# Altium integrated library TI Power Management Supervisor and Reset IC.IntLib: 819 symbols (part 17 of 30)
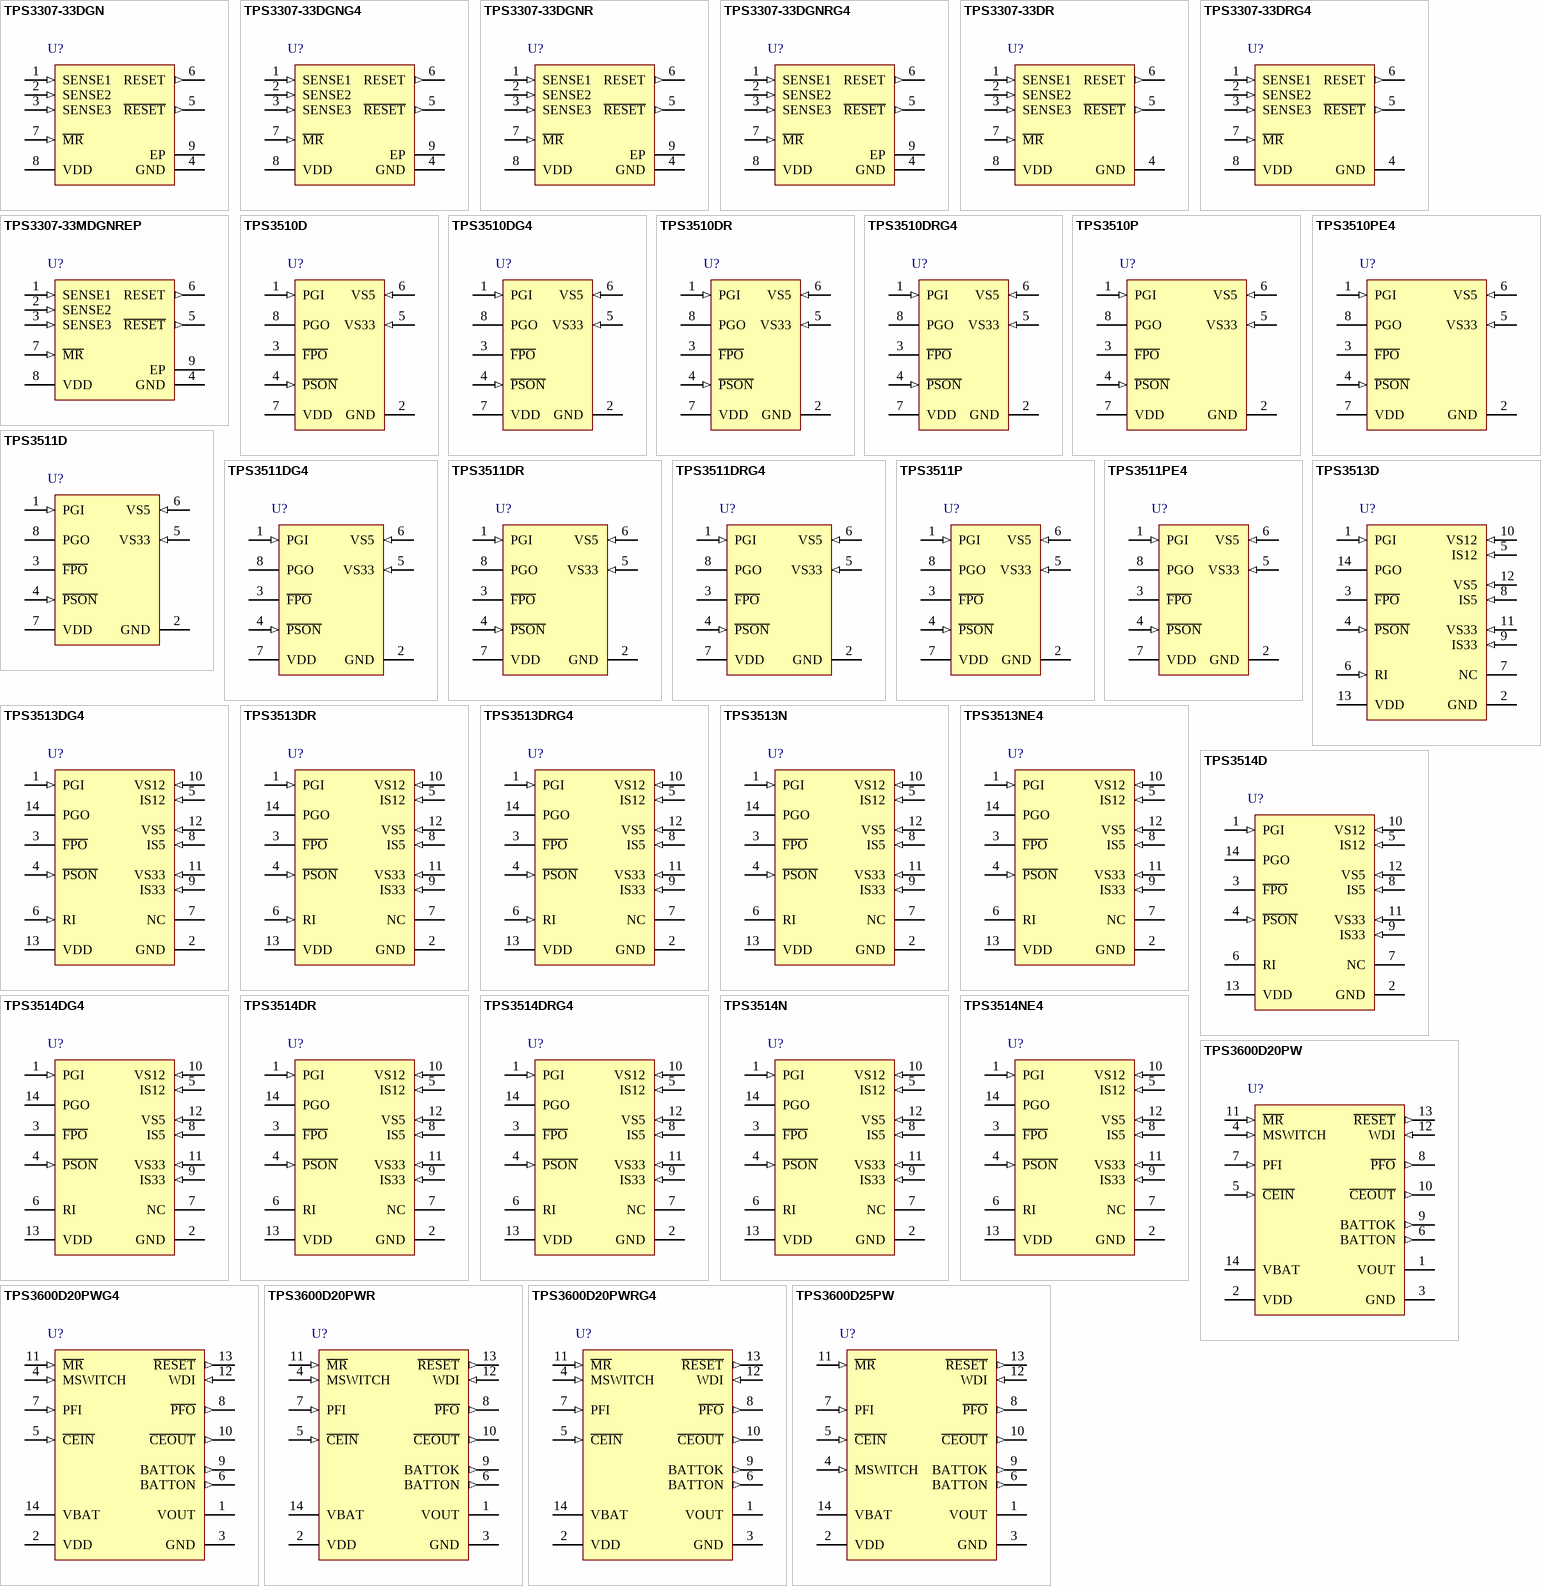
[diagram p37: symbols TPS3307-33DGN to TPS3600D25PW]

## TPS3513NE4
designator U?
3-Channel Supervisor With Over-Current Detect for Switch-Mode Power Supply, 3 Supply Monitored, -40 to 85 degC, 14-pin PDIP (N), Green (RoHS & no Sb/Br); Manufacturer: Texas Instruments; PartNumber: TPS3513NE4; # of supplies monitored: 3; Iq(Typ)(uA): 1000; Output Driver Type / Reset Output: Active-low, Open-drain; Rating: Catalog; Reset Threshold Accuracy(%): 2.3; SubFamily: Supervisor and Reset IC; Threshold Voltage 1 (typ)(Typ)(V): 2.2; Threshold Voltage 2 (typ)(Typ)(V): 3.5; Threshold Voltage 3 (typ)(Typ)(V): 9; Time Delay(ms): 300; VCC(Max)(V): 15; VCC(Min)(V): 4.5; DatasheetVersion: SLVS313B; PackageVersion: revE, Dec-2002; PackageReference: N14; PackageDescription: 14-Pin Plastic Dual-In-Line Package, Row Spacing 7.62 mm, Pitch 2.54 mm; Supplier 1: Digi-Key; Supplier Part Number 1: TPS3513NE4-ND; Supplier 2: Newark; Supplier Part Number 2: 24K5920; Supplier 3: Mouser; Supplier Part Number 3: 595-TPS3513NE4; Mounting Technology: Through Hole; Code_JEDEC: MS-001; ComponentLink1Description: Datasheet; ComponentLink1URL: http://www.ti.com/general/docs/lit/getliterature.tsp?genericPartNumber=TPS3513&fileType=pdf
footprint N14 (DIP, 14-Leads, Row Spacing 7.62mm, Pitch 2.54mm, Body 19.3x6.4mm)
pins: 1 PGI (in) "Power-good input. A low level indicates that power is not good, while a high (>1.2V) indicates that power is good.", 2 GND (power) "Ground", 3 ~{FPO} (oc) "Inverted fault protection output, open-drain, output stage. A low level indicates that the fault is not latched, while floating indicates that the fault is latched.", 4 ~{PSON} (in) "On/off control. Pull low to enable the PC Power Supply; float to disable it.", 5 IS12 (in) "12-V overcurrent protection", 6 RI "Current sense setting", 7 NC "No internal connection", 8 IS5 (in) "5-V overcurrent protection", 9 IS33 (in) "3.3-V overcurrent protection", 10 VS12 (in) "12-V overvoltage/undervoltage protection", 11 VS33 (in) "3.3-V overvoltage protect/undervoltage detect", 12 VS5 (in) "5-V overvoltage protect/undervoltage detect", 13 VDD (power) "Supply voltage", 14 PGO (oc) "Power-good output, open drain output stage. A low level indicates that power is not good, while floating indicates that power is good."

## TPS3514D
designator U?
3 Ch Supervisor with Over Current Detect for Switchmode Power Supply, 3 Supplies Monitored, -40 to 85 degC, 14-pin SOIC (D), Green (RoHS & no Sb/Br); Manufacturer: Texas Instruments; PartNumber: TPS3514D; # of supplies monitored: 3; Iq(Typ)(uA): 1000; Output Driver Type / Reset Output: Active-low, Open-drain; Rating: Catalog; Reset Threshold Accuracy(%): 2.3; SubFamily: Supervisor and Reset IC; Threshold Voltage 1 (typ)(Typ)(V): 2.2; Threshold Voltage 2 (typ)(Typ)(V): 3.5; Threshold Voltage 3 (typ)(Typ)(V): 9; Time Delay(ms): 300; VCC(Max)(V): 15; VCC(Min)(V): 4.5; DatasheetVersion: SLVS422C; PackageVersion: revM, Jun-2011; PackageReference: D14; PackageDescription: 14-Pin Plastic Small Outline Integrated Circuit, 8.7 x 3.9 mm, Pitch 1.27 mm Pitch; Supplier 1: Digi-Key; Supplier Part Number 1: 296-13513-5-ND; Supplier 2: Newark; Supplier Part Number 2: 77C0340; Supplier 3: Mouser; Supplier Part Number 3: 595-TPS3514D; Mounting Technology: Surface Mount; Code_JEDEC: MS-012AB; ComponentLink1Description: Datasheet; ComponentLink1URL: http://www.ti.com/general/docs/lit/getliterature.tsp?genericPartNumber=TPS3514&fileType=pdf
footprint D14_N (SOIC, 14-Leads, Body 8.7x3.9mm, Pitch 1.27mm, IPC Medium Density)
footprint D14_L (SOIC, 14-Leads, Body 8.7x3.9mm, Pitch 1.27mm, IPC High Density)
footprint D14_M (SOIC, 14-Leads, Body 8.7x3.9mm, Pitch 1.27mm, IPC Low Density)
pins: 1 PGI (in) "Power-Good Input", 2 GND (power) "Ground", 3 ~{FPO} (oc) "Inverted Fault Ptotection output. Open-drain output stage.", 4 ~{PSON} (in) "On/Off Control Input", 5 IS12 (in) "12V Over-Current Protection Input", 6 RI "OCP Reference Source", 7 NC "No Internal Connection", 8 IS5 (in) "5V Over-Current Protection Input", 9 IS33 (in) "3.3V Over-Current Protection Input", 10 VS12 (in) "12V Over-Voltage/Under-Voltage Protection Input", 11 VS33 (in) "3.3V Over-Voltage/Under-Voltage Protection Input", 12 VS5 (in) "5V Over-Voltage/Under-Voltage Protection Input", 13 VDD (power) "Supply Voltage", 14 PGO (oc) "Power-Good Output. Open-drain output stage."

## TPS3514DG4
designator U?
3 Ch Supervisor with Over Current Detect for Switchmode Power Supply, 3 Supply Monitored, -40 to 85 degC, 14-pin SOIC (D), Green (RoHS & no Sb/Br); Manufacturer: Texas Instruments; PartNumber: TPS3514DG4; # of supplies monitored: 3; Iq(Typ)(uA): 1000; Output Driver Type / Reset Output: Active-low, Open-drain; Rating: Catalog; Reset Threshold Accuracy(%): 2.3; SubFamily: Supervisor and Reset IC; Threshold Voltage 1 (typ)(Typ)(V): 2.2; Threshold Voltage 2 (typ)(Typ)(V): 3.5; Threshold Voltage 3 (typ)(Typ)(V): 9; Time Delay(ms): 300; VCC(Max)(V): 15; VCC(Min)(V): 4.5; DatasheetVersion: SLVS422C; PackageVersion: revM, Jun-2011; PackageReference: D14; PackageDescription: 14-Pin Plastic Small Outline Integrated Circuit, 8.7 x 3.9 mm, Pitch 1.27 mm Pitch; Supplier 1: Digi-Key; Supplier Part Number 1: TPS3514DG4-ND; Supplier 2: Newark; Supplier Part Number 2: 18M3217; Supplier 3: Mouser; Supplier Part Number 3: 595-TPS3514DG4; Mounting Technology: Surface Mount; Code_JEDEC: MS-012AB; ComponentLink1Description: Datasheet; ComponentLink1URL: http://www.ti.com/general/docs/lit/getliterature.tsp?genericPartNumber=TPS3514&fileType=pdf
footprint D14_N (SOIC, 14-Leads, Body 8.7x3.9mm, Pitch 1.27mm, IPC Medium Density)
footprint D14_L (SOIC, 14-Leads, Body 8.7x3.9mm, Pitch 1.27mm, IPC High Density)
footprint D14_M (SOIC, 14-Leads, Body 8.7x3.9mm, Pitch 1.27mm, IPC Low Density)
pins: 1 PGI (in) "Power-Good Input", 2 GND (power) "Ground", 3 ~{FPO} (oc) "Inverted Fault Ptotection output. Open-drain output stage.", 4 ~{PSON} (in) "On/Off Control Input", 5 IS12 (in) "12V Over-Current Protection Input", 6 RI "OCP Reference Source", 7 NC "No Internal Connection", 8 IS5 (in) "5V Over-Current Protection Input", 9 IS33 (in) "3.3V Over-Current Protection Input", 10 VS12 (in) "12V Over-Voltage/Under-Voltage Protection Input", 11 VS33 (in) "3.3V Over-Voltage/Under-Voltage Protection Input", 12 VS5 (in) "5V Over-Voltage/Under-Voltage Protection Input", 13 VDD (power) "Supply Voltage", 14 PGO (oc) "Power-Good Output. Open-drain output stage."

## TPS3514DR
designator U?
3 Ch Supervisor with Over Current Detect for Switchmode Power Supply, 3 Supply Monitored, -40 to 85 degC, 14-pin SOIC (D), Green (RoHS & no Sb/Br); Manufacturer: Texas Instruments; PartNumber: TPS3514DR; # of supplies monitored: 3; Iq(Typ)(uA): 1000; Output Driver Type / Reset Output: Active-low, Open-drain; Rating: Catalog; Reset Threshold Accuracy(%): 2.3; SubFamily: Supervisor and Reset IC; Threshold Voltage 1 (typ)(Typ)(V): 2.2; Threshold Voltage 2 (typ)(Typ)(V): 3.5; Threshold Voltage 3 (typ)(Typ)(V): 9; Time Delay(ms): 300; VCC(Max)(V): 15; VCC(Min)(V): 4.5; DatasheetVersion: SLVS422C; PackageVersion: revM, Jun-2011; PackageReference: D14; PackageDescription: 14-Pin Plastic Small Outline Integrated Circuit, 8.7 x 3.9 mm, Pitch 1.27 mm Pitch; Supplier 1: Digi-Key; Supplier Part Number 1: TPS3514DR-ND; Supplier 2: Newark; Supplier Part Number 2: 77C0341; Supplier 3: Mouser; Supplier Part Number 3: 595-TPS3514DR; Mounting Technology: Surface Mount; Code_JEDEC: MS-012AB; ComponentLink1Description: Datasheet; ComponentLink1URL: http://www.ti.com/general/docs/lit/getliterature.tsp?genericPartNumber=TPS3514&fileType=pdf
footprint D14_N (SOIC, 14-Leads, Body 8.7x3.9mm, Pitch 1.27mm, IPC Medium Density)
footprint D14_L (SOIC, 14-Leads, Body 8.7x3.9mm, Pitch 1.27mm, IPC High Density)
footprint D14_M (SOIC, 14-Leads, Body 8.7x3.9mm, Pitch 1.27mm, IPC Low Density)
pins: 1 PGI (in) "Power-Good Input", 2 GND (power) "Ground", 3 ~{FPO} (oc) "Inverted Fault Ptotection output. Open-drain output stage.", 4 ~{PSON} (in) "On/Off Control Input", 5 IS12 (in) "12V Over-Current Protection Input", 6 RI "OCP Reference Source", 7 NC "No Internal Connection", 8 IS5 (in) "5V Over-Current Protection Input", 9 IS33 (in) "3.3V Over-Current Protection Input", 10 VS12 (in) "12V Over-Voltage/Under-Voltage Protection Input", 11 VS33 (in) "3.3V Over-Voltage/Under-Voltage Protection Input", 12 VS5 (in) "5V Over-Voltage/Under-Voltage Protection Input", 13 VDD (power) "Supply Voltage", 14 PGO (oc) "Power-Good Output. Open-drain output stage."

## TPS3514DRG4
designator U?
3 Ch Supervisor with Over Current Detect for Switchmode Power Supply, 3 Supply Monitored, -40 to 85 degC, 14-pin SOIC (D), Green (RoHS & no Sb/Br); Manufacturer: Texas Instruments; PartNumber: TPS3514DRG4; # of supplies monitored: 3; Iq(Typ)(uA): 1000; Output Driver Type / Reset Output: Active-low, Open-drain; Rating: Catalog; Reset Threshold Accuracy(%): 2.3; SubFamily: Supervisor and Reset IC; Threshold Voltage 1 (typ)(Typ)(V): 2.2; Threshold Voltage 2 (typ)(Typ)(V): 3.5; Threshold Voltage 3 (typ)(Typ)(V): 9; Time Delay(ms): 300; VCC(Max)(V): 15; VCC(Min)(V): 4.5; DatasheetVersion: SLVS422C; PackageVersion: revM, Jun-2011; PackageReference: D14; PackageDescription: 14-Pin Plastic Small Outline Integrated Circuit, 8.7 x 3.9 mm, Pitch 1.27 mm Pitch; Supplier 1: Digi-Key; Supplier Part Number 1: TPS3514DRG4-ND; Supplier 2: Newark; Supplier Part Number 2: 81K4141; Supplier 3: Mouser; Supplier Part Number 3: 595-TPS3514DRG4; Mounting Technology: Surface Mount; Code_JEDEC: MS-012AB; ComponentLink1Description: Datasheet; ComponentLink1URL: http://www.ti.com/general/docs/lit/getliterature.tsp?genericPartNumber=TPS3514&fileType=pdf
footprint D14_N (SOIC, 14-Leads, Body 8.7x3.9mm, Pitch 1.27mm, IPC Medium Density)
footprint D14_L (SOIC, 14-Leads, Body 8.7x3.9mm, Pitch 1.27mm, IPC High Density)
footprint D14_M (SOIC, 14-Leads, Body 8.7x3.9mm, Pitch 1.27mm, IPC Low Density)
pins: 1 PGI (in) "Power-Good Input", 2 GND (power) "Ground", 3 ~{FPO} (oc) "Inverted Fault Ptotection output. Open-drain output stage.", 4 ~{PSON} (in) "On/Off Control Input", 5 IS12 (in) "12V Over-Current Protection Input", 6 RI "OCP Reference Source", 7 NC "No Internal Connection", 8 IS5 (in) "5V Over-Current Protection Input", 9 IS33 (in) "3.3V Over-Current Protection Input", 10 VS12 (in) "12V Over-Voltage/Under-Voltage Protection Input", 11 VS33 (in) "3.3V Over-Voltage/Under-Voltage Protection Input", 12 VS5 (in) "5V Over-Voltage/Under-Voltage Protection Input", 13 VDD (power) "Supply Voltage", 14 PGO (oc) "Power-Good Output. Open-drain output stage."

## TPS3514N
designator U?
3 Ch Supervisor with Over Current Detect for Switchmode Power Supply, 3 Supply Monitored, -40 to 85 degC, 14-pin PDIP (N), Pb-Free (RoHS); Manufacturer: Texas Instruments; PartNumber: TPS3514N; # of supplies monitored: 3; Iq(Typ)(uA): 1000; Output Driver Type / Reset Output: Active-low, Open-drain; Rating: Catalog; Reset Threshold Accuracy(%): 2.3; SubFamily: Supervisor and Reset IC; Threshold Voltage 1 (typ)(Typ)(V): 2.2; Threshold Voltage 2 (typ)(Typ)(V): 3.5; Threshold Voltage 3 (typ)(Typ)(V): 9; Time Delay(ms): 300; VCC(Max)(V): 15; VCC(Min)(V): 4.5; DatasheetVersion: SLVS422C; PackageVersion: revE, Dec-2002; PackageReference: N14; PackageDescription: 14-Pin Plastic Dual-In-Line Package, Row Spacing 7.62 mm, Pitch 2.54 mm; Supplier 1: Digi-Key; Supplier Part Number 1: 296-34603-5-ND; Supplier 2: Farnell; Supplier Part Number 2: 1755526; Supplier 3: Newark; Supplier Part Number 3: 77C0342; Supplier 4: Mouser; Supplier Part Number 4: 595-TPS3514N; Mounting Technology: Through Hole; Code_JEDEC: MS-001; ComponentLink1Description: Datasheet; ComponentLink1URL: http://www.ti.com/general/docs/lit/getliterature.tsp?genericPartNumber=TPS3514&fileType=pdf
footprint N14 (DIP, 14-Leads, Row Spacing 7.62mm, Pitch 2.54mm, Body 19.3x6.4mm)
pins: 1 PGI (in) "Power-Good Input", 2 GND (power) "Ground", 3 ~{FPO} (oc) "Inverted Fault Ptotection output. Open-drain output stage.", 4 ~{PSON} (in) "On/Off Control Input", 5 IS12 (in) "12V Over-Current Protection Input", 6 RI "OCP Reference Source", 7 NC "No Internal Connection", 8 IS5 (in) "5V Over-Current Protection Input", 9 IS33 (in) "3.3V Over-Current Protection Input", 10 VS12 (in) "12V Over-Voltage/Under-Voltage Protection Input", 11 VS33 (in) "3.3V Over-Voltage/Under-Voltage Protection Input", 12 VS5 (in) "5V Over-Voltage/Under-Voltage Protection Input", 13 VDD (power) "Supply Voltage", 14 PGO (oc) "Power-Good Output. Open-drain output stage."

## TPS3514NE4
designator U?
3 Ch Supervisor with Over Current Detect for Switchmode Power Supply, 3 Supply Monitored, -40 to 85 degC, 14-pin PDIP (N), Pb-Free (RoHS); Manufacturer: Texas Instruments; PartNumber: TPS3514NE4; # of supplies monitored: 3; Iq(Typ)(uA): 1000; Output Driver Type / Reset Output: Active-low, Open-drain; Rating: Catalog; Reset Threshold Accuracy(%): 2.3; SubFamily: Supervisor and Reset IC; Threshold Voltage 1 (typ)(Typ)(V): 2.2; Threshold Voltage 2 (typ)(Typ)(V): 3.5; Threshold Voltage 3 (typ)(Typ)(V): 9; Time Delay(ms): 300; VCC(Max)(V): 15; VCC(Min)(V): 4.5; DatasheetVersion: SLVS422C; PackageVersion: revE, Dec-2002; PackageReference: N14; PackageDescription: 14-Pin Plastic Dual-In-Line Package, Row Spacing 7.62 mm, Pitch 2.54 mm; Supplier 1: Digi-Key; Supplier Part Number 1: TPS3514NE4-ND; Supplier 2: Newark; Supplier Part Number 2: 24K5921; Supplier 3: Mouser; Supplier Part Number 3: 595-TPS3514NE4; Mounting Technology: Through Hole; Code_JEDEC: MS-001; ComponentLink1Description: Datasheet; ComponentLink1URL: http://www.ti.com/general/docs/lit/getliterature.tsp?genericPartNumber=TPS3514&fileType=pdf
footprint N14 (DIP, 14-Leads, Row Spacing 7.62mm, Pitch 2.54mm, Body 19.3x6.4mm)
pins: 1 PGI (in) "Power-Good Input", 2 GND (power) "Ground", 3 ~{FPO} (oc) "Inverted Fault Ptotection output. Open-drain output stage.", 4 ~{PSON} (in) "On/Off Control Input", 5 IS12 (in) "12V Over-Current Protection Input", 6 RI "OCP Reference Source", 7 NC "No Internal Connection", 8 IS5 (in) "5V Over-Current Protection Input", 9 IS33 (in) "3.3V Over-Current Protection Input", 10 VS12 (in) "12V Over-Voltage/Under-Voltage Protection Input", 11 VS33 (in) "3.3V Over-Voltage/Under-Voltage Protection Input", 12 VS5 (in) "5V Over-Voltage/Under-Voltage Protection Input", 13 VDD (power) "Supply Voltage", 14 PGO (oc) "Power-Good Output. Open-drain output stage."

## TPS3600D20PW
designator U?
Battery-Backup Supervisor for Low Power Processor, 1 Supply Monitored, -40 to 85 degC, 14-pin TSSOP (PW), Green (RoHS & no Sb/Br); Manufacturer: Texas Instruments; PartNumber: TPS3600D20PW; # of supplies monitored: 1; Iq(Typ)(uA): 20; Output Driver Type / Reset Output: Active-low, Push-pull; Rating: Catalog; Reset Threshold Accuracy(%): 2.3; SubFamily: Supervisor and Reset IC; Threshold Voltage 1 (typ)(Typ)(V): 1.78; Threshold Voltage 2 (typ)(Typ)(V): Adjustable; Time Delay(ms): 100; VCC(Max)(V): 5.5; VCC(Min)(V): 1.65; Watchdog Timer WDI(sec): 0.8; DatasheetVersion: SLVS336B; PackageVersion: revG, Feb-2011; PackageReference: PW14; PackageDescription: 14-Pin Thin Small Outline Package 0.65 mm Pitch; Supplier 1: Digi-Key; Supplier Part Number 1: 296-10906-5-ND; Supplier 2: Newark; Supplier Part Number 2: 25C5033; Supplier 3: Mouser; Supplier Part Number 3: 595-TPS3600D20PW; Mounting Technology: Surface Mount; Code_JEDEC: MO-153; ComponentLink1Description: Datasheet; ComponentLink1URL: http://www.ti.com/general/docs/lit/getliterature.tsp?genericPartNumber=TPS3600D20&fileType=pdf
footprint PW14_N (TSOP, 14-Leads, Body 5x4.4mm, Pitch 0.65mm, IPC Medium Density)
footprint PW14_L (TSOP, 14-Leads, Body 5x4.4mm, Pitch 0.65mm, IPC High Density)
footprint PW14_M (TSOP, 14-Leads, Body 5x4.4mm, Pitch 0.65mm, IPC Low Density)
pins: 1 VOUT (power) "Supply output.", 2 VDD (power) "Input supply voltage.", 3 GND (power) "Ground.", 4 MSWITCH (in) "Manual switch to force device into battery-backup mode (connect to GND if not used).", 5 ~{CEIN} (in) "Chip-enable input.", 6 BATTON (out) "Logic output/external bypass switch driver output.", 7 PFI (in) "Power-fail comparator input (connect to GND if not used).", 8 ~{PFO} (out) "Power-fail comparator output.", 9 BATTOK (out) "Battery status output.", 10 ~{CEOUT} (out) "Chip-enable output.", 11 ~{MR} (in) "Manual reset input.", 12 WDI (in) "Watchdog timer input.", 13 ~{RESET} (out) "Active-low reset output.", 14 VBAT (power) "Backup-battery input."

## TPS3600D20PWG4
designator U?
Battery-Backup Supervisor for Low Power Processor, 1 Supply Monitored, -40 to 85 degC, 14-pin TSSOP (PW), Green (RoHS & no Sb/Br); Manufacturer: Texas Instruments; PartNumber: TPS3600D20PWG4; # of supplies monitored: 1; Iq(Typ)(uA): 20; Output Driver Type / Reset Output: Active-low, Push-pull; Rating: Catalog; Reset Threshold Accuracy(%): 2.3; SubFamily: Supervisor and Reset IC; Threshold Voltage 1 (typ)(Typ)(V): 1.78; Threshold Voltage 2 (typ)(Typ)(V): Adjustable; Time Delay(ms): 100; VCC(Max)(V): 5.5; VCC(Min)(V): 1.65; Watchdog Timer WDI(sec): 0.8; DatasheetVersion: SLVS336B; PackageVersion: revG, Feb-2011; PackageReference: PW14; PackageDescription: 14-Pin Thin Small Outline Package 0.65 mm Pitch; Supplier 1: Digi-Key; Supplier Part Number 1: TPS3600D20PWG4-ND; Supplier 2: Newark; Supplier Part Number 2: 02M4308; Supplier 3: Mouser; Supplier Part Number 3: 595-TPS3600D20PWG4; Mounting Technology: Surface Mount; Code_JEDEC: MO-153; ComponentLink1Description: Datasheet; ComponentLink1URL: http://www.ti.com/general/docs/lit/getliterature.tsp?genericPartNumber=TPS3600D20&fileType=pdf
footprint PW14_N (TSOP, 14-Leads, Body 5x4.4mm, Pitch 0.65mm, IPC Medium Density)
footprint PW14_L (TSOP, 14-Leads, Body 5x4.4mm, Pitch 0.65mm, IPC High Density)
footprint PW14_M (TSOP, 14-Leads, Body 5x4.4mm, Pitch 0.65mm, IPC Low Density)
pins: 1 VOUT (power) "Supply output.", 2 VDD (power) "Input supply voltage.", 3 GND (power) "Ground.", 4 MSWITCH (in) "Manual switch to force device into battery-backup mode (connect to GND if not used).", 5 ~{CEIN} (in) "Chip-enable input.", 6 BATTON (out) "Logic output/external bypass switch driver output.", 7 PFI (in) "Power-fail comparator input (connect to GND if not used).", 8 ~{PFO} (out) "Power-fail comparator output.", 9 BATTOK (out) "Battery status output.", 10 ~{CEOUT} (out) "Chip-enable output.", 11 ~{MR} (in) "Manual reset input.", 12 WDI (in) "Watchdog timer input.", 13 ~{RESET} (out) "Active-low reset output.", 14 VBAT (power) "Backup-battery input."

## TPS3600D20PWR
designator U?
Battery-Backup Supervisor for Low Power Processor, 1 Supply Monitored, -40 to 85 degC, 14-pin TSSOP (PW), Green (RoHS & no Sb/Br); Manufacturer: Texas Instruments; PartNumber: TPS3600D20PWR; # of supplies monitored: 1; Iq(Typ)(uA): 20; Output Driver Type / Reset Output: Active-low, Push-pull; Rating: Catalog; Reset Threshold Accuracy(%): 2.3; SubFamily: Supervisor and Reset IC; Threshold Voltage 1 (typ)(Typ)(V): 1.78; Threshold Voltage 2 (typ)(Typ)(V): Adjustable; Time Delay(ms): 100; VCC(Max)(V): 5.5; VCC(Min)(V): 1.65; Watchdog Timer WDI(sec): 0.8; DatasheetVersion: SLVS336B; PackageVersion: revG, Feb-2011; PackageReference: PW14; PackageDescription: 14-Pin Thin Small Outline Package 0.65 mm Pitch; Supplier 1: Digi-Key; Supplier Part Number 1: TPS3600D20PWR-ND; Supplier 2: Newark; Supplier Part Number 2: 77C0343; Supplier 3: Mouser; Supplier Part Number 3: 595-TPS3600D20PWR; Mounting Technology: Surface Mount; Code_JEDEC: MO-153; ComponentLink1Description: Datasheet; ComponentLink1URL: http://www.ti.com/general/docs/lit/getliterature.tsp?genericPartNumber=TPS3600D20&fileType=pdf
footprint PW14_N (TSOP, 14-Leads, Body 5x4.4mm, Pitch 0.65mm, IPC Medium Density)
footprint PW14_L (TSOP, 14-Leads, Body 5x4.4mm, Pitch 0.65mm, IPC High Density)
footprint PW14_M (TSOP, 14-Leads, Body 5x4.4mm, Pitch 0.65mm, IPC Low Density)
pins: 1 VOUT (power) "Supply output.", 2 VDD (power) "Input supply voltage.", 3 GND (power) "Ground.", 4 MSWITCH (in) "Manual switch to force device into battery-backup mode (connect to GND if not used).", 5 ~{CEIN} (in) "Chip-enable input.", 6 BATTON (out) "Logic output/external bypass switch driver output.", 7 PFI (in) "Power-fail comparator input (connect to GND if not used).", 8 ~{PFO} (out) "Power-fail comparator output.", 9 BATTOK (out) "Battery status output.", 10 ~{CEOUT} (out) "Chip-enable output.", 11 ~{MR} (in) "Manual reset input.", 12 WDI (in) "Watchdog timer input.", 13 ~{RESET} (out) "Active-low reset output.", 14 VBAT (power) "Backup-battery input."

## TPS3600D20PWRG4
designator U?
Battery-Backup Supervisor for Low Power Processor, 1 Supply Monitored, -40 to 85 degC, 14-pin TSSOP (PW), Green (RoHS & no Sb/Br); Manufacturer: Texas Instruments; PartNumber: TPS3600D20PWRG4; # of supplies monitored: 1; Iq(Typ)(uA): 20; Output Driver Type / Reset Output: Active-low, Push-pull; Rating: Catalog; Reset Threshold Accuracy(%): 2.3; SubFamily: Supervisor and Reset IC; Threshold Voltage 1 (typ)(Typ)(V): 1.78; Threshold Voltage 2 (typ)(Typ)(V): Adjustable; Time Delay(ms): 100; VCC(Max)(V): 5.5; VCC(Min)(V): 1.65; Watchdog Timer WDI(sec): 0.8; DatasheetVersion: SLVS336B; PackageVersion: revG, Feb-2011; PackageReference: PW14; PackageDescription: 14-Pin Thin Small Outline Package 0.65 mm Pitch; Supplier 1: Digi-Key; Supplier Part Number 1: TPS3600D20PWRG4-ND; Supplier 2: Newark; Supplier Part Number 2: 54K1632; Supplier 3: Mouser; Supplier Part Number 3: 595-TPS3600D20PWRG4; Mounting Technology: Surface Mount; Code_JEDEC: MO-153; ComponentLink1Description: Datasheet; ComponentLink1URL: http://www.ti.com/general/docs/lit/getliterature.tsp?genericPartNumber=TPS3600D20&fileType=pdf
footprint PW14_N (TSOP, 14-Leads, Body 5x4.4mm, Pitch 0.65mm, IPC Medium Density)
footprint PW14_L (TSOP, 14-Leads, Body 5x4.4mm, Pitch 0.65mm, IPC High Density)
footprint PW14_M (TSOP, 14-Leads, Body 5x4.4mm, Pitch 0.65mm, IPC Low Density)
pins: 1 VOUT (power) "Supply output.", 2 VDD (power) "Input supply voltage.", 3 GND (power) "Ground.", 4 MSWITCH (in) "Manual switch to force device into battery-backup mode (connect to GND if not used).", 5 ~{CEIN} (in) "Chip-enable input.", 6 BATTON (out) "Logic output/external bypass switch driver output.", 7 PFI (in) "Power-fail comparator input (connect to GND if not used).", 8 ~{PFO} (out) "Power-fail comparator output.", 9 BATTOK (out) "Battery status output.", 10 ~{CEOUT} (out) "Chip-enable output.", 11 ~{MR} (in) "Manual reset input.", 12 WDI (in) "Watchdog timer input.", 13 ~{RESET} (out) "Active-low reset output.", 14 VBAT (power) "Backup-battery input."

## TPS3600D25PW
designator U?
Battery-Backup Supervisor for Low Power Processor, 1 Supply Monitored, -40 to 85 degC, 14-pin TSSOP (PW), Green (RoHS & no Sb/Br); Manufacturer: Texas Instruments; PartNumber: TPS3600D25PW; # of supplies monitored: 1; Iq(Typ)(uA): 20; Output Driver Type / Reset Output: Active-low, Push-pull; Rating: Catalog; Reset Threshold Accuracy(%): 2.3; SubFamily: Supervisor and Reset IC; Threshold Voltage 1 (typ)(Typ)(V): 2.22; Threshold Voltage 2 (typ)(Typ)(V): Adjustable; Time Delay(ms): 100; VCC(Max)(V): 5.5; VCC(Min)(V): 1.65; Watchdog Timer WDI(sec): 0.8; DatasheetVersion: SLVS336B; PackageVersion: revG, Feb-2011; PackageReference: PW14; PackageDescription: 14-Pin Thin Small Outline Package 0.65 mm Pitch; Supplier 1: Digi-Key; Supplier Part Number 1: 296-12017-5-ND; Supplier 2: Newark; Supplier Part Number 2: 77C0344; Supplier 3: Mouser; Supplier Part Number 3: 595-TPS3600D25PW; Mounting Technology: Surface Mount; Code_JEDEC: MO-153; ComponentLink1Description: Datasheet; ComponentLink1URL: http://www.ti.com/general/docs/lit/getliterature.tsp?genericPartNumber=TPS3600D25&fileType=pdf
footprint PW14_N (TSOP, 14-Leads, Body 5x4.4mm, Pitch 0.65mm, IPC Medium Density)
footprint PW14_L (TSOP, 14-Leads, Body 5x4.4mm, Pitch 0.65mm, IPC High Density)
footprint PW14_M (TSOP, 14-Leads, Body 5x4.4mm, Pitch 0.65mm, IPC Low Density)
pins: 1 VOUT (power) "Supply output", 2 VDD (power) "Input supply voltage", 3 GND (power) "Ground", 4 MSWITCH (in) "Manual switch to force device into battery-backup mode (connect to GND if not used)", 5 ~{CEIN} (in) "Chip-enable input", 6 BATTON (out) "Logic output/external bypass switch driver output", 7 PFI (in) "Power-fail comparator input (connect to GND if not used)", 8 ~{PFO} (out) "Power-fail comparator output", 9 BATTOK (out) "Battery status output", 10 ~{CEOUT} (out) "Chip-enable output", 11 ~{MR} (in) "Manual reset input", 12 WDI (in) "Watchdog timer input", 13 ~{RESET} (out) "Active-low reset output", 14 VBAT (power) "Backup-battery input"

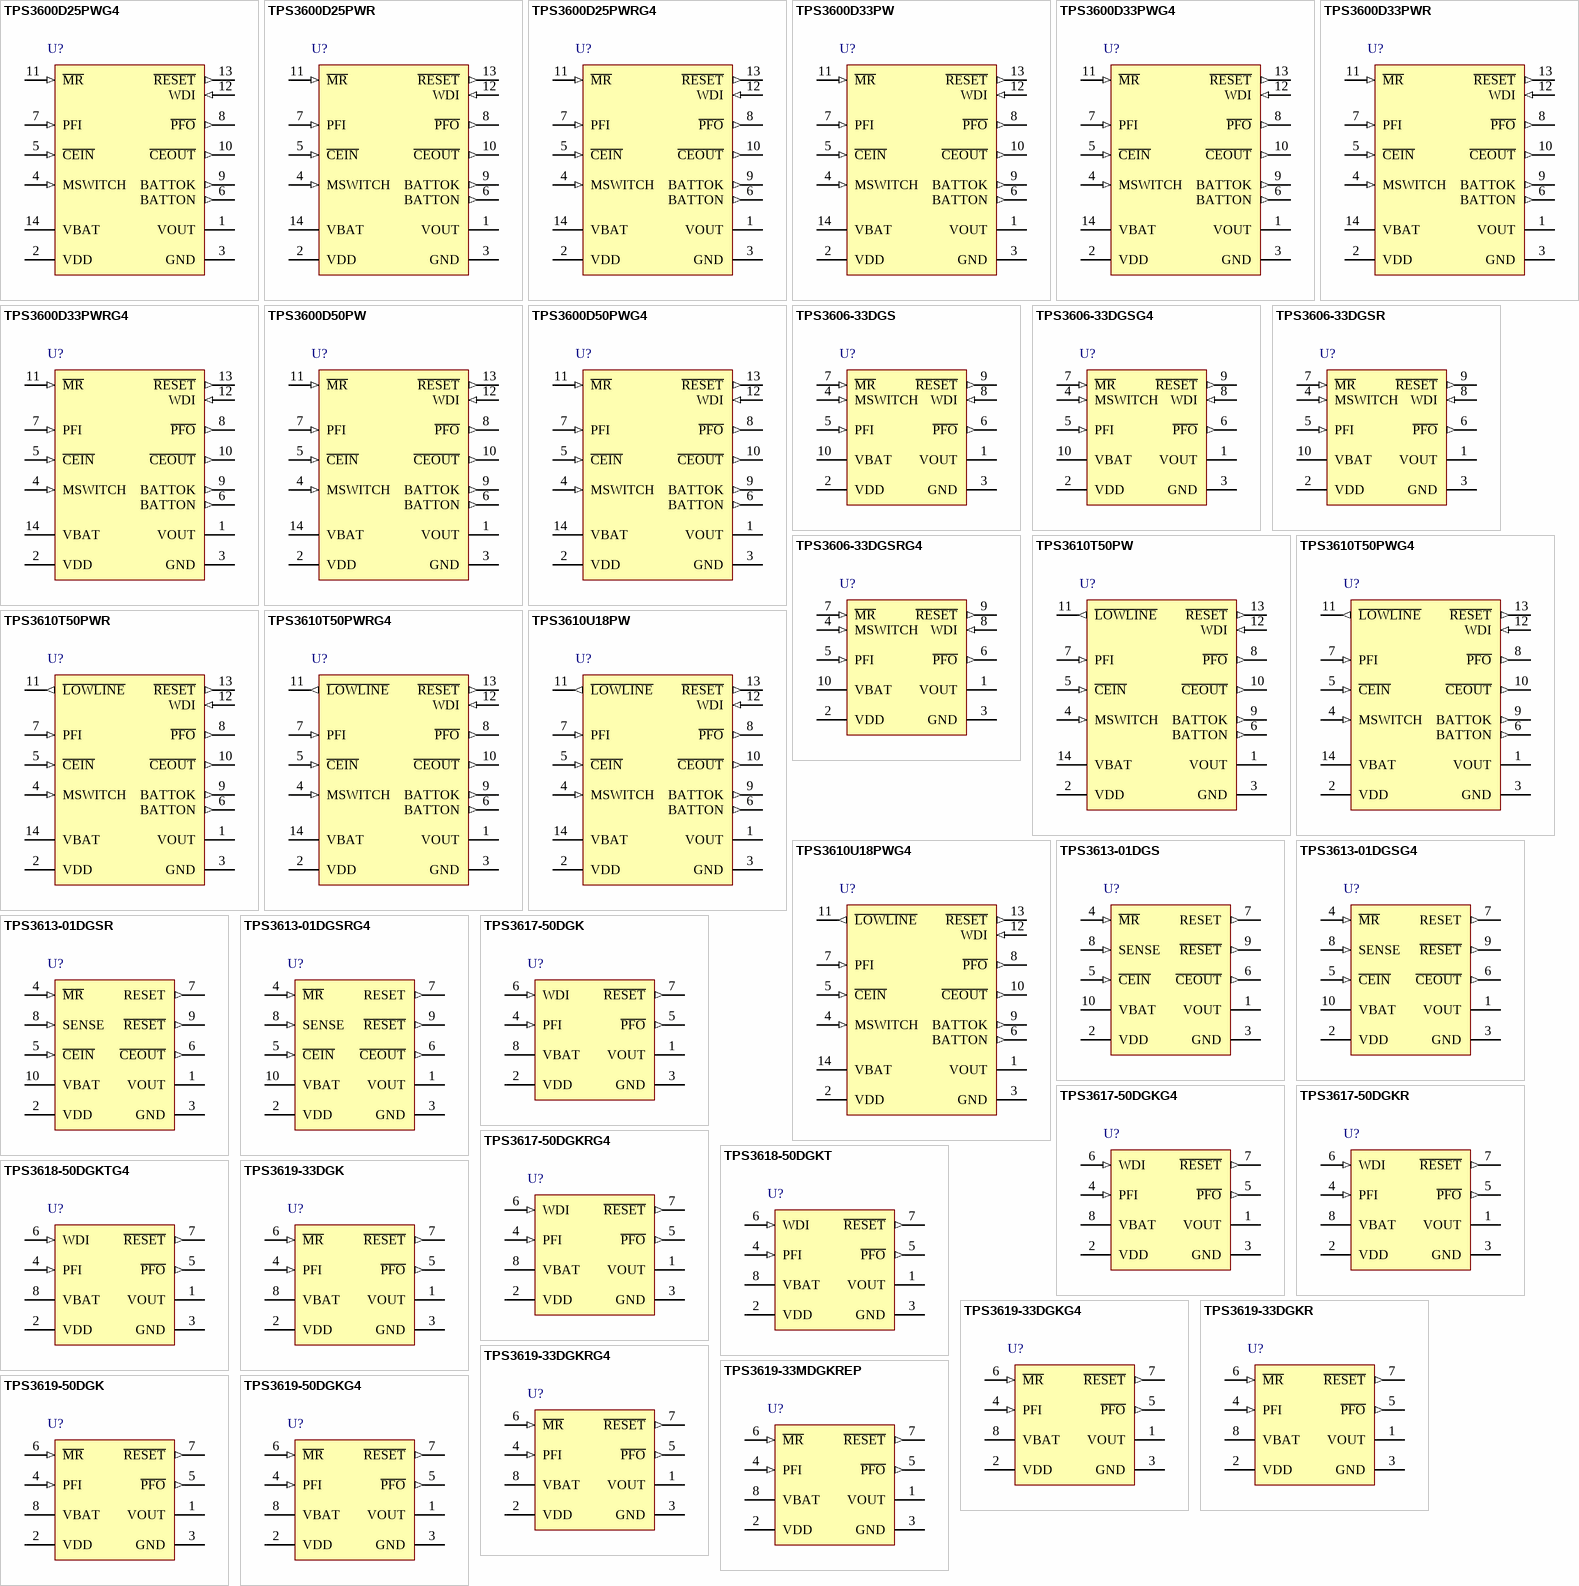
[diagram p13: symbols TPS3600D25PWG4 to TPS3619-50DGKG4]

## TPS3600D25PWG4
designator U?
Battery-Backup Supervisor for Low Power Processor, 1 Supply Monitored, -40 to 85 degC, 14-pin TSSOP (PW), Green (RoHS & no Sb/Br); Manufacturer: Texas Instruments; PartNumber: TPS3600D25PWG4; # of supplies monitored: 1; Iq(Typ)(uA): 20; Output Driver Type / Reset Output: Active-low, Push-pull; Rating: Catalog; Reset Threshold Accuracy(%): 2.3; SubFamily: Supervisor and Reset IC; Threshold Voltage 1 (typ)(Typ)(V): 2.22; Threshold Voltage 2 (typ)(Typ)(V): Adjustable; Time Delay(ms): 100; VCC(Max)(V): 5.5; VCC(Min)(V): 1.65; Watchdog Timer WDI(sec): 0.8; DatasheetVersion: SLVS336B; PackageVersion: revG, Feb-2011; PackageReference: PW14; PackageDescription: 14-Pin Thin Small Outline Package 0.65 mm Pitch; Supplier 1: Digi-Key; Supplier Part Number 1: TPS3600D25PWG4-ND; Supplier 2: Newark; Supplier Part Number 2: 81K4142; Supplier 3: Mouser; Supplier Part Number 3: 595-TPS3600D25PWG4; Mounting Technology: Surface Mount; Code_JEDEC: MO-153; ComponentLink1Description: Datasheet; ComponentLink1URL: http://www.ti.com/general/docs/lit/getliterature.tsp?genericPartNumber=TPS3600D25&fileType=pdf
footprint PW14_N (TSOP, 14-Leads, Body 5x4.4mm, Pitch 0.65mm, IPC Medium Density)
footprint PW14_L (TSOP, 14-Leads, Body 5x4.4mm, Pitch 0.65mm, IPC High Density)
footprint PW14_M (TSOP, 14-Leads, Body 5x4.4mm, Pitch 0.65mm, IPC Low Density)
pins: 1 VOUT (power) "Supply output", 2 VDD (power) "Input supply voltage", 3 GND (power) "Ground", 4 MSWITCH (in) "Manual switch to force device into battery-backup mode (connect to GND if not used)", 5 ~{CEIN} (in) "Chip-enable input", 6 BATTON (out) "Logic output/external bypass switch driver output", 7 PFI (in) "Power-fail comparator input (connect to GND if not used)", 8 ~{PFO} (out) "Power-fail comparator output", 9 BATTOK (out) "Battery status output", 10 ~{CEOUT} (out) "Chip-enable output", 11 ~{MR} (in) "Manual reset input", 12 WDI (in) "Watchdog timer input", 13 ~{RESET} (out) "Active-low reset output", 14 VBAT (power) "Backup-battery input"

## TPS3600D25PWR
designator U?
Battery-Backup Supervisor for Low Power Processor, 1 Supply Monitored, -40 to 85 degC, 14-pin TSSOP (PW), Green (RoHS & no Sb/Br); Manufacturer: Texas Instruments; PartNumber: TPS3600D25PWR; # of supplies monitored: 1; Iq(Typ)(uA): 20; Output Driver Type / Reset Output: Active-low, Push-pull; Rating: Catalog; Reset Threshold Accuracy(%): 2.3; SubFamily: Supervisor and Reset IC; Threshold Voltage 1 (typ)(Typ)(V): 2.22; Threshold Voltage 2 (typ)(Typ)(V): Adjustable; Time Delay(ms): 100; VCC(Max)(V): 5.5; VCC(Min)(V): 1.65; Watchdog Timer WDI(sec): 0.8; DatasheetVersion: SLVS336B; PackageVersion: revG, Feb-2011; PackageReference: PW14; PackageDescription: 14-Pin Thin Small Outline Package 0.65 mm Pitch; Supplier 1: Digi-Key; Supplier Part Number 1: TPS3600D25PWR-ND; Supplier 2: Newark; Supplier Part Number 2: 77C0345; Supplier 3: Mouser; Supplier Part Number 3: 595-TPS3600D25PWR; Mounting Technology: Surface Mount; Code_JEDEC: MO-153; ComponentLink1Description: Datasheet; ComponentLink1URL: http://www.ti.com/general/docs/lit/getliterature.tsp?genericPartNumber=TPS3600D25&fileType=pdf
footprint PW14_N (TSOP, 14-Leads, Body 5x4.4mm, Pitch 0.65mm, IPC Medium Density)
footprint PW14_L (TSOP, 14-Leads, Body 5x4.4mm, Pitch 0.65mm, IPC High Density)
footprint PW14_M (TSOP, 14-Leads, Body 5x4.4mm, Pitch 0.65mm, IPC Low Density)
pins: 1 VOUT (power) "Supply output", 2 VDD (power) "Input supply voltage", 3 GND (power) "Ground", 4 MSWITCH (in) "Manual switch to force device into battery-backup mode (connect to GND if not used)", 5 ~{CEIN} (in) "Chip-enable input", 6 BATTON (out) "Logic output/external bypass switch driver output", 7 PFI (in) "Power-fail comparator input (connect to GND if not used)", 8 ~{PFO} (out) "Power-fail comparator output", 9 BATTOK (out) "Battery status output", 10 ~{CEOUT} (out) "Chip-enable output", 11 ~{MR} (in) "Manual reset input", 12 WDI (in) "Watchdog timer input", 13 ~{RESET} (out) "Active-low reset output", 14 VBAT (power) "Backup-battery input"

## TPS3600D25PWRG4
designator U?
Battery-Backup Supervisor for Low Power Processor, 1 Supply Monitored, -40 to 85 degC, 14-pin TSSOP (PW), Green (RoHS & no Sb/Br); Manufacturer: Texas Instruments; PartNumber: TPS3600D25PWRG4; # of supplies monitored: 1; Iq(Typ)(uA): 20; Output Driver Type / Reset Output: Active-low, Push-pull; Rating: Catalog; Reset Threshold Accuracy(%): 2.3; SubFamily: Supervisor and Reset IC; Threshold Voltage 1 (typ)(Typ)(V): 2.22; Threshold Voltage 2 (typ)(Typ)(V): Adjustable; Time Delay(ms): 100; VCC(Max)(V): 5.5; VCC(Min)(V): 1.65; Watchdog Timer WDI(sec): 0.8; DatasheetVersion: SLVS336B; PackageVersion: revG, Feb-2011; PackageReference: PW14; PackageDescription: 14-Pin Thin Small Outline Package 0.65 mm Pitch; Supplier 1: Digi-Key; Supplier Part Number 1: TPS3600D25PWRG4-ND; Supplier 2: Newark; Supplier Part Number 2: 73K9594; Supplier 3: Mouser; Supplier Part Number 3: 595-TPS3600D25PWRG4; Mounting Technology: Surface Mount; Code_JEDEC: MO-153; ComponentLink1Description: Datasheet; ComponentLink1URL: http://www.ti.com/general/docs/lit/getliterature.tsp?genericPartNumber=TPS3600D25&fileType=pdf
footprint PW14_N (TSOP, 14-Leads, Body 5x4.4mm, Pitch 0.65mm, IPC Medium Density)
footprint PW14_L (TSOP, 14-Leads, Body 5x4.4mm, Pitch 0.65mm, IPC High Density)
footprint PW14_M (TSOP, 14-Leads, Body 5x4.4mm, Pitch 0.65mm, IPC Low Density)
pins: 1 VOUT (power) "Supply output", 2 VDD (power) "Input supply voltage", 3 GND (power) "Ground", 4 MSWITCH (in) "Manual switch to force device into battery-backup mode (connect to GND if not used)", 5 ~{CEIN} (in) "Chip-enable input", 6 BATTON (out) "Logic output/external bypass switch driver output", 7 PFI (in) "Power-fail comparator input (connect to GND if not used)", 8 ~{PFO} (out) "Power-fail comparator output", 9 BATTOK (out) "Battery status output", 10 ~{CEOUT} (out) "Chip-enable output", 11 ~{MR} (in) "Manual reset input", 12 WDI (in) "Watchdog timer input", 13 ~{RESET} (out) "Active-low reset output", 14 VBAT (power) "Backup-battery input"

## TPS3600D33PW
designator U?
Battery-Backup Supervisor for Low Power Processor, 1 Supply Monitored, -40 to 85 degC, 14-pin TSSOP (PW), Green (RoHS & no Sb/Br); Manufacturer: Texas Instruments; PartNumber: TPS3600D33PW; # of supplies monitored: 1; Iq(Typ)(uA): 20; Output Driver Type / Reset Output: Active-low, Push-pull; Rating: Catalog; Reset Threshold Accuracy(%): 2; SubFamily: Supervisor and Reset IC; Threshold Voltage 1 (typ)(Typ)(V): 2.93; Threshold Voltage 2 (typ)(Typ)(V): Adjustable; Time Delay(ms): 100; VCC(Max)(V): 5.5; VCC(Min)(V): 1.65; Watchdog Timer WDI(sec): 0.8; DatasheetVersion: SLVS336B; PackageVersion: revG, Feb-2011; PackageReference: PW14; PackageDescription: 14-Pin Thin Small Outline Package 0.65 mm Pitch; Supplier 1: Digi-Key; Supplier Part Number 1: 296-12237-5-ND; Supplier 2: Newark; Supplier Part Number 2: 25C5034; Supplier 3: Mouser; Supplier Part Number 3: 595-TPS3600D33PW; Mounting Technology: Surface Mount; Code_JEDEC: MO-153; ComponentLink1Description: Datasheet; ComponentLink1URL: http://www.ti.com/general/docs/lit/getliterature.tsp?genericPartNumber=TPS3600D33&fileType=pdf
footprint PW14_N (TSOP, 14-Leads, Body 5x4.4mm, Pitch 0.65mm, IPC Medium Density)
footprint PW14_L (TSOP, 14-Leads, Body 5x4.4mm, Pitch 0.65mm, IPC High Density)
footprint PW14_M (TSOP, 14-Leads, Body 5x4.4mm, Pitch 0.65mm, IPC Low Density)
pins: 1 VOUT (power) "Supply output", 2 VDD (power) "Input supply voltage", 3 GND (power) "Ground", 4 MSWITCH (in) "Manual switch to force device into battery-backup mode (connect to GND if not used)", 5 ~{CEIN} (in) "Chip-enable input", 6 BATTON (out) "Logic output/external bypass switch driver output", 7 PFI (in) "Power-fail comparator input (connect to GND if not used)", 8 ~{PFO} (out) "Power-fail comparator output", 9 BATTOK (out) "Battery status output", 10 ~{CEOUT} (out) "Chip-enable output", 11 ~{MR} (in) "Manual reset input", 12 WDI (in) "Watchdog timer input", 13 ~{RESET} (out) "Active-low reset output", 14 VBAT (power) "Backup-battery input"

## TPS3600D33PWG4
designator U?
Battery-Backup Supervisor for Low Power Processor, 1 Supply Monitored, -40 to 85 degC, 14-pin TSSOP (PW), Green (RoHS & no Sb/Br); Manufacturer: Texas Instruments; PartNumber: TPS3600D33PWG4; # of supplies monitored: 1; Iq(Typ)(uA): 20; Output Driver Type / Reset Output: Active-low, Push-pull; Rating: Catalog; Reset Threshold Accuracy(%): 2; SubFamily: Supervisor and Reset IC; Threshold Voltage 1 (typ)(Typ)(V): 2.93; Threshold Voltage 2 (typ)(Typ)(V): Adjustable; Time Delay(ms): 100; VCC(Max)(V): 5.5; VCC(Min)(V): 1.65; Watchdog Timer WDI(sec): 0.8; DatasheetVersion: SLVS336B; PackageVersion: revG, Feb-2011; PackageReference: PW14; PackageDescription: 14-Pin Thin Small Outline Package 0.65 mm Pitch; Supplier 1: Digi-Key; Supplier Part Number 1: TPS3600D33PWG4-ND; Supplier 2: Newark; Supplier Part Number 2: 70K5725; Supplier 3: Mouser; Supplier Part Number 3: 595-TPS3600D33PWG4; Mounting Technology: Surface Mount; Code_JEDEC: MO-153; ComponentLink1Description: Datasheet; ComponentLink1URL: http://www.ti.com/general/docs/lit/getliterature.tsp?genericPartNumber=TPS3600D33&fileType=pdf
footprint PW14_N (TSOP, 14-Leads, Body 5x4.4mm, Pitch 0.65mm, IPC Medium Density)
footprint PW14_L (TSOP, 14-Leads, Body 5x4.4mm, Pitch 0.65mm, IPC High Density)
footprint PW14_M (TSOP, 14-Leads, Body 5x4.4mm, Pitch 0.65mm, IPC Low Density)
pins: 1 VOUT (power) "Supply output", 2 VDD (power) "Input supply voltage", 3 GND (power) "Ground", 4 MSWITCH (in) "Manual switch to force device into battery-backup mode (connect to GND if not used)", 5 ~{CEIN} (in) "Chip-enable input", 6 BATTON (out) "Logic output/external bypass switch driver output", 7 PFI (in) "Power-fail comparator input (connect to GND if not used)", 8 ~{PFO} (out) "Power-fail comparator output", 9 BATTOK (out) "Battery status output", 10 ~{CEOUT} (out) "Chip-enable output", 11 ~{MR} (in) "Manual reset input", 12 WDI (in) "Watchdog timer input", 13 ~{RESET} (out) "Active-low reset output", 14 VBAT (power) "Backup-battery input"

## TPS3600D33PWR
designator U?
Battery-Backup Supervisor for Low Power Processor, 1 Supply Monitored, -40 to 85 degC, 14-pin TSSOP (PW), Green (RoHS & no Sb/Br); Manufacturer: Texas Instruments; PartNumber: TPS3600D33PWR; # of supplies monitored: 1; Iq(Typ)(uA): 20; Output Driver Type / Reset Output: Active-low, Push-pull; Rating: Catalog; Reset Threshold Accuracy(%): 2; SubFamily: Supervisor and Reset IC; Threshold Voltage 1 (typ)(Typ)(V): 2.93; Threshold Voltage 2 (typ)(Typ)(V): Adjustable; Time Delay(ms): 100; VCC(Max)(V): 5.5; VCC(Min)(V): 1.65; Watchdog Timer WDI(sec): 0.8; DatasheetVersion: SLVS336B; PackageVersion: revG, Feb-2011; PackageReference: PW14; PackageDescription: 14-Pin Thin Small Outline Package 0.65 mm Pitch; Supplier 1: Digi-Key; Supplier Part Number 1: 296-10907-2-ND; Supplier 2: Digi-Key; Supplier Part Number 2: 296-10907-1-ND; Supplier 3: Digi-Key; Supplier Part Number 3: 296-10907-6-ND; Supplier 4: Newark; Supplier Part Number 4: 77C0346; Supplier 5: Mouser; Supplier Part Number 5: 595-TPS3600D33PWR; Mounting Technology: Surface Mount; Code_JEDEC: MO-153; ComponentLink1Description: Datasheet; ComponentLink1URL: http://www.ti.com/general/docs/lit/getliterature.tsp?genericPartNumber=TPS3600D33&fileType=pdf
footprint PW14_N (TSOP, 14-Leads, Body 5x4.4mm, Pitch 0.65mm, IPC Medium Density)
footprint PW14_L (TSOP, 14-Leads, Body 5x4.4mm, Pitch 0.65mm, IPC High Density)
footprint PW14_M (TSOP, 14-Leads, Body 5x4.4mm, Pitch 0.65mm, IPC Low Density)
pins: 1 VOUT (power) "Supply output", 2 VDD (power) "Input supply voltage", 3 GND (power) "Ground", 4 MSWITCH (in) "Manual switch to force device into battery-backup mode (connect to GND if not used)", 5 ~{CEIN} (in) "Chip-enable input", 6 BATTON (out) "Logic output/external bypass switch driver output", 7 PFI (in) "Power-fail comparator input (connect to GND if not used)", 8 ~{PFO} (out) "Power-fail comparator output", 9 BATTOK (out) "Battery status output", 10 ~{CEOUT} (out) "Chip-enable output", 11 ~{MR} (in) "Manual reset input", 12 WDI (in) "Watchdog timer input", 13 ~{RESET} (out) "Active-low reset output", 14 VBAT (power) "Backup-battery input"

## TPS3600D33PWRG4
designator U?
Battery-Backup Supervisor for Low Power Processor, 1 Supply Monitored, -40 to 85 degC, 14-pin TSSOP (PW), Green (RoHS & no Sb/Br); Manufacturer: Texas Instruments; PartNumber: TPS3600D33PWRG4; # of supplies monitored: 1; Iq(Typ)(uA): 20; Output Driver Type / Reset Output: Active-low, Push-pull; Rating: Catalog; Reset Threshold Accuracy(%): 2; SubFamily: Supervisor and Reset IC; Threshold Voltage 1 (typ)(Typ)(V): 2.93; Threshold Voltage 2 (typ)(Typ)(V): Adjustable; Time Delay(ms): 100; VCC(Max)(V): 5.5; VCC(Min)(V): 1.65; Watchdog Timer WDI(sec): 0.8; DatasheetVersion: SLVS336B; PackageVersion: revG, Feb-2011; PackageReference: PW14; PackageDescription: 14-Pin Thin Small Outline Package 0.65 mm Pitch; Supplier 1: Digi-Key; Supplier Part Number 1: TPS3600D33PWRG4-ND; Supplier 2: Newark; Supplier Part Number 2: 58K6920; Supplier 3: Mouser; Supplier Part Number 3: 595-TPS3600D33PWRG4; Mounting Technology: Surface Mount; Code_JEDEC: MO-153; ComponentLink1Description: Datasheet; ComponentLink1URL: http://www.ti.com/general/docs/lit/getliterature.tsp?genericPartNumber=TPS3600D33&fileType=pdf
footprint PW14_N (TSOP, 14-Leads, Body 5x4.4mm, Pitch 0.65mm, IPC Medium Density)
footprint PW14_L (TSOP, 14-Leads, Body 5x4.4mm, Pitch 0.65mm, IPC High Density)
footprint PW14_M (TSOP, 14-Leads, Body 5x4.4mm, Pitch 0.65mm, IPC Low Density)
pins: 1 VOUT (power) "Supply output", 2 VDD (power) "Input supply voltage", 3 GND (power) "Ground", 4 MSWITCH (in) "Manual switch to force device into battery-backup mode (connect to GND if not used)", 5 ~{CEIN} (in) "Chip-enable input", 6 BATTON (out) "Logic output/external bypass switch driver output", 7 PFI (in) "Power-fail comparator input (connect to GND if not used)", 8 ~{PFO} (out) "Power-fail comparator output", 9 BATTOK (out) "Battery status output", 10 ~{CEOUT} (out) "Chip-enable output", 11 ~{MR} (in) "Manual reset input", 12 WDI (in) "Watchdog timer input", 13 ~{RESET} (out) "Active-low reset output", 14 VBAT (power) "Backup-battery input"

## TPS3600D50PW
designator U?
Battery-Backup Supervisor for Low Power Processor, 1 Supply Monitored, -40 to 85 degC, 14-pin TSSOP (PW), Green (RoHS & no Sb/Br); Manufacturer: Texas Instruments; PartNumber: TPS3600D50PW; # of supplies monitored: 1; Iq(Typ)(uA): 20; Output Driver Type / Reset Output: Active-low, Push-pull; Rating: Catalog; Reset Threshold Accuracy(%): 2; SubFamily: Supervisor and Reset IC; Threshold Voltage 1 (typ)(Typ)(V): 4.4; Threshold Voltage 2 (typ)(Typ)(V): Adjustable; Time Delay(ms): 100; VCC(Max)(V): 5.5; VCC(Min)(V): 1.65; Watchdog Timer WDI(sec): 0.8; DatasheetVersion: SLVS336B; PackageVersion: revG, Feb-2011; PackageReference: PW14; PackageDescription: 14-Pin Thin Small Outline Package 0.65 mm Pitch; Supplier 1: Digi-Key; Supplier Part Number 1: 296-12238-5-ND; Supplier 2: Newark; Supplier Part Number 2: 25C5035; Supplier 3: Mouser; Supplier Part Number 3: 595-TPS3600D50PW; Mounting Technology: Surface Mount; Code_JEDEC: MO-153; ComponentLink1Description: Datasheet; ComponentLink1URL: http://www.ti.com/general/docs/lit/getliterature.tsp?genericPartNumber=TPS3600D50&fileType=pdf
footprint PW14_N (TSOP, 14-Leads, Body 5x4.4mm, Pitch 0.65mm, IPC Medium Density)
footprint PW14_L (TSOP, 14-Leads, Body 5x4.4mm, Pitch 0.65mm, IPC High Density)
footprint PW14_M (TSOP, 14-Leads, Body 5x4.4mm, Pitch 0.65mm, IPC Low Density)
pins: 1 VOUT (power) "Supply output.", 2 VDD (power) "Input supply voltage.", 3 GND (power) "Ground.", 4 MSWITCH (in) "Manual switch to force device into battery-backup mode (connect to GND if not used).", 5 ~{CEIN} (in) "Chip-enable input.", 6 BATTON (out) "Logic output/external bypass switch driver output.", 7 PFI (in) "Power-fail comparator input (connect to GND if not used).", 8 ~{PFO} (out) "Power-fail comparator output.", 9 BATTOK (out) "Battery status output.", 10 ~{CEOUT} (out) "Chip-enable output.", 11 ~{MR} (in) "Manual reset input.", 12 WDI (in) "Watchdog timer input.", 13 ~{RESET} (out) "Active-low reset output.", 14 VBAT (power) "Backup-battery input."

## TPS3600D50PWG4
designator U?
Battery-Backup Supervisor for Low Power Processor, 1 Supply Monitored, -40 to 85 degC, 14-pin TSSOP (PW), Green (RoHS & no Sb/Br); Manufacturer: Texas Instruments; PartNumber: TPS3600D50PWG4; # of supplies monitored: 1; Iq(Typ)(uA): 20; Output Driver Type / Reset Output: Active-low, Push-pull; Rating: Catalog; Reset Threshold Accuracy(%): 2; SubFamily: Supervisor and Reset IC; Threshold Voltage 1 (typ)(Typ)(V): 4.4; Threshold Voltage 2 (typ)(Typ)(V): Adjustable; Time Delay(ms): 100; VCC(Max)(V): 5.5; VCC(Min)(V): 1.65; Watchdog Timer WDI(sec): 0.8; DatasheetVersion: SLVS336B; PackageVersion: revG, Feb-2011; PackageReference: PW14; PackageDescription: 14-Pin Thin Small Outline Package 0.65 mm Pitch; Supplier 1: Digi-Key; Supplier Part Number 1: TPS3600D50PWG4-ND; Supplier 2: Newark; Supplier Part Number 2: 99K4402; Supplier 3: Mouser; Supplier Part Number 3: 595-TPS3600D50PWG4; Mounting Technology: Surface Mount; Code_JEDEC: MO-153; ComponentLink1Description: Datasheet; ComponentLink1URL: http://www.ti.com/general/docs/lit/getliterature.tsp?genericPartNumber=TPS3600D50&fileType=pdf
footprint PW14_N (TSOP, 14-Leads, Body 5x4.4mm, Pitch 0.65mm, IPC Medium Density)
footprint PW14_L (TSOP, 14-Leads, Body 5x4.4mm, Pitch 0.65mm, IPC High Density)
footprint PW14_M (TSOP, 14-Leads, Body 5x4.4mm, Pitch 0.65mm, IPC Low Density)
pins: 1 VOUT (power) "Supply output.", 2 VDD (power) "Input supply voltage.", 3 GND (power) "Ground.", 4 MSWITCH (in) "Manual switch to force device into battery-backup mode (connect to GND if not used).", 5 ~{CEIN} (in) "Chip-enable input.", 6 BATTON (out) "Logic output/external bypass switch driver output.", 7 PFI (in) "Power-fail comparator input (connect to GND if not used).", 8 ~{PFO} (out) "Power-fail comparator output.", 9 BATTOK (out) "Battery status output.", 10 ~{CEOUT} (out) "Chip-enable output.", 11 ~{MR} (in) "Manual reset input.", 12 WDI (in) "Watchdog timer input.", 13 ~{RESET} (out) "Active-low reset output.", 14 VBAT (power) "Backup-battery input."

## TPS3606-33DGS
designator U?
Battery-Backup Supervisor for Low Power Processor, 1 Supply Monitored, -40 to 85 degC, 10-pin MSOP (DGS), Green (RoHS & no Sb/Br); Manufacturer: Texas Instruments; PartNumber: TPS3606-33DGS; # of supplies monitored: 1; Iq(Typ)(uA): 20; Output Driver Type / Reset Output: Active-low, Push-pull; Rating: Catalog; Reset Threshold Accuracy(%): 2; SubFamily: Supervisor and Reset IC; Threshold Voltage 1 (typ)(Typ)(V): 2.93; Threshold Voltage 2 (typ)(Typ)(V): Adjustable; Time Delay(ms): 100; VCC(Max)(V): 5.5; VCC(Min)(V): 1.65; Watchdog Timer WDI(sec): 0.8; DatasheetVersion: SLVS335C; PackageVersion: revC, Feb-2004; PackageReference: DGS10; PackageDescription: 10-Pin Thin Shrink Small Outline Package 0.5 mm Pitch; Supplier 1: Digi-Key; Supplier Part Number 1: 296-10909-5-ND; Supplier 2: Farnell; Supplier Part Number 2: 1691457; Supplier 3: Newark; Supplier Part Number 3: 86P6885; Supplier 4: Newark; Supplier Part Number 4: 77C0349; Supplier 5: Mouser; Supplier Part Number 5: 595-TPS3606-33DGS; Mounting Technology: Surface Mount; Code_JEDEC: MO-187-BA; ComponentLink1Description: Datasheet; ComponentLink1URL: http://www.ti.com/general/docs/lit/getliterature.tsp?genericPartNumber=TPS3606-33&fileType=pdf
footprint DGS10_N (TSSOP, 10-Leads, Body 3x3mm, Pitch 0.5mm, IPC Medium Density)
footprint DGS10_L (TSSOP, 10-Leads, Body 3x3mm, Pitch 0.5mm, IPC High Density)
footprint DGS10_M (TSSOP, 10-Leads, Body 3x3mm, Pitch 0.5mm, IPC Low Density)
pins: 1 VOUT (power) "Supply output", 2 VDD (power) "Input supply voltage", 3 GND (power) "Ground", 4 MSWITCH (in) "Manual switch to force device into battery-backup mode", 5 PFI (in) "Power-fail comparator input", 6 ~{PFO} (out) "Power-fail comparator output", 7 ~{MR} (in) "Manual reset input", 8 WDI (in) "Watchdog timer input", 9 ~{RESET} (out) "Active-low reset output", 10 VBAT (power) "Backup-battery input"

## TPS3606-33DGSG4
designator U?
Battery-Backup Supervisor for Low Power Processor, 1 Supply Monitored, -40 to 85 degC, 10-pin MSOP (DGS), Green (RoHS & no Sb/Br); Manufacturer: Texas Instruments; PartNumber: TPS3606-33DGSG4; # of supplies monitored: 1; Iq(Typ)(uA): 20; Output Driver Type / Reset Output: Active-low, Push-pull; Rating: Catalog; Reset Threshold Accuracy(%): 2; SubFamily: Supervisor and Reset IC; Threshold Voltage 1 (typ)(Typ)(V): 2.93; Threshold Voltage 2 (typ)(Typ)(V): Adjustable; Time Delay(ms): 100; VCC(Max)(V): 5.5; VCC(Min)(V): 1.65; Watchdog Timer WDI(sec): 0.8; DatasheetVersion: SLVS335C; PackageVersion: revC, Feb-2004; PackageReference: DGS10; PackageDescription: 10-Pin Thin Shrink Small Outline Package 0.5 mm Pitch; Supplier 1: Digi-Key; Supplier Part Number 1: TPS3606-33DGSG4-ND; Supplier 2: Newark; Supplier Part Number 2: 66K4519; Supplier 3: Mouser; Supplier Part Number 3: 595-TPS3606-33DGSG4; Mounting Technology: Surface Mount; Code_JEDEC: MO-187-BA; ComponentLink1Description: Datasheet; ComponentLink1URL: http://www.ti.com/general/docs/lit/getliterature.tsp?genericPartNumber=TPS3606-33&fileType=pdf
footprint DGS10_N (TSSOP, 10-Leads, Body 3x3mm, Pitch 0.5mm, IPC Medium Density)
footprint DGS10_L (TSSOP, 10-Leads, Body 3x3mm, Pitch 0.5mm, IPC High Density)
footprint DGS10_M (TSSOP, 10-Leads, Body 3x3mm, Pitch 0.5mm, IPC Low Density)
pins: 1 VOUT (power) "Supply output", 2 VDD (power) "Input supply voltage", 3 GND (power) "Ground", 4 MSWITCH (in) "Manual switch to force device into battery-backup mode", 5 PFI (in) "Power-fail comparator input", 6 ~{PFO} (out) "Power-fail comparator output", 7 ~{MR} (in) "Manual reset input", 8 WDI (in) "Watchdog timer input", 9 ~{RESET} (out) "Active-low reset output", 10 VBAT (power) "Backup-battery input"

## TPS3606-33DGSR
designator U?
Battery-Backup Supervisor for Low Power Processor, 1 Supply Monitored, -40 to 85 degC, 10-pin MSOP (DGS), Green (RoHS & no Sb/Br); Manufacturer: Texas Instruments; PartNumber: TPS3606-33DGSR; # of supplies monitored: 1; Iq(Typ)(uA): 20; Output Driver Type / Reset Output: Active-low, Push-pull; Rating: Catalog; Reset Threshold Accuracy(%): 2; SubFamily: Supervisor and Reset IC; Threshold Voltage 1 (typ)(Typ)(V): 2.93; Threshold Voltage 2 (typ)(Typ)(V): Adjustable; Time Delay(ms): 100; VCC(Max)(V): 5.5; VCC(Min)(V): 1.65; Watchdog Timer WDI(sec): 0.8; DatasheetVersion: SLVS335C; PackageVersion: revC, Feb-2004; PackageReference: DGS10; PackageDescription: 10-Pin Thin Shrink Small Outline Package 0.5 mm Pitch; Supplier 1: Digi-Key; Supplier Part Number 1: TPS3606-33DGSR-ND; Supplier 2: Newark; Supplier Part Number 2: 77C0350; Supplier 3: Mouser; Supplier Part Number 3: 595-TPS3606-33DGSR; Mounting Technology: Surface Mount; Code_JEDEC: MO-187-BA; ComponentLink1Description: Datasheet; ComponentLink1URL: http://www.ti.com/general/docs/lit/getliterature.tsp?genericPartNumber=TPS3606-33&fileType=pdf
footprint DGS10_N (TSSOP, 10-Leads, Body 3x3mm, Pitch 0.5mm, IPC Medium Density)
footprint DGS10_L (TSSOP, 10-Leads, Body 3x3mm, Pitch 0.5mm, IPC High Density)
footprint DGS10_M (TSSOP, 10-Leads, Body 3x3mm, Pitch 0.5mm, IPC Low Density)
pins: 1 VOUT (power) "Supply output", 2 VDD (power) "Input supply voltage", 3 GND (power) "Ground", 4 MSWITCH (in) "Manual switch to force device into battery-backup mode", 5 PFI (in) "Power-fail comparator input", 6 ~{PFO} (out) "Power-fail comparator output", 7 ~{MR} (in) "Manual reset input", 8 WDI (in) "Watchdog timer input", 9 ~{RESET} (out) "Active-low reset output", 10 VBAT (power) "Backup-battery input"